# EAGLE library part 87368-38 (library con-molex-milli-grid)
RECEPTACAL
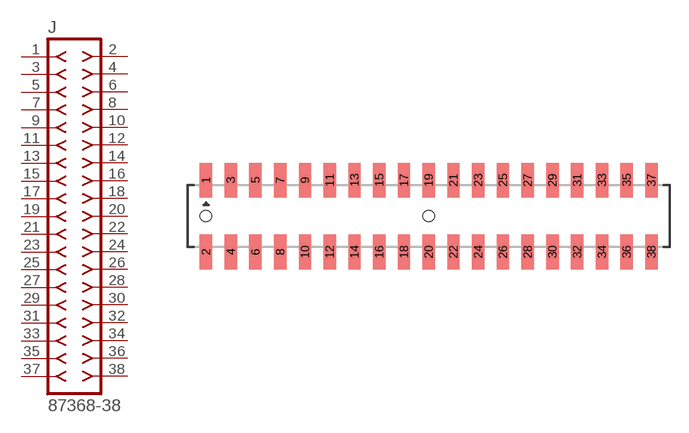
[diagram p198: symbol with the pads of 87368-38; footprint 87368-38]

Designator prefix J

## 87368-38  [87368-38]
1  1  pas
2  2  pas
3  3  pas
4  4  pas
5  5  pas
6  6  pas
7  7  pas
8  8  pas
9  9  pas
10  10  pas
11  11  pas
12  12  pas
13  13  pas
14  14  pas
15  15  pas
16  16  pas
17  17  pas
18  18  pas
19  19  pas
20  20  pas
21  21  pas
22  22  pas
23  23  pas
24  24  pas
25  25  pas
26  26  pas
27  27  pas
28  28  pas
29  29  pas
30  30  pas
31  31  pas
32  32  pas
33  33  pas
34  34  pas
35  35  pas
36  36  pas
37  37  pas
38  38  pas

## Footprint 87368-38 (pad centres in mm)
RECEPTACAL SMD Dual Row, Side Entry
smd 1 x 2.8: 1 -18,2.9; 2 -18,-2.9; 3 -16,2.9; 4 -16,-2.9; 5 -14,2.9; 6 -14,-2.9; 7 -12,2.9; 8 -12,-2.9; 9 -10,2.9; 10 -10,-2.9; 11 -8,2.9; 12 -8,-2.9; 13 -6,2.9; 14 -6,-2.9; 15 -4,2.9; 16 -4,-2.9; 17 -2,2.9; 18 -2,-2.9; 19 0,2.9; 20 0,-2.9; 21 2,2.9; 22 2,-2.9; 23 4,2.9; 24 4,-2.9; 25 6,2.9; 26 6,-2.9; 27 8,2.9; 28 8,-2.9; 29 10,2.9; 30 10,-2.9; 31 12,2.9; 32 12,-2.9; 33 14,2.9; 34 14,-2.9; 35 16,2.9; 36 16,-2.9; 37 18,2.9; 38 18,-2.9
hole 0.914 at -18,0
hole 0.914 at 0,0